# Altium footprint library CONN-STD-PHOENIX-MKDS-2P-5.08MM-TH.PcbLib: 1 footprints
Each footprint in its own frame and in the unit in brackets; x right, y up, seen from the top. Pads: shape width x height; smd on the part's side, far side on the other; paste and mask are expansions set on the pad; w line width, h text height; cw(c..) or ccw(c..) is an arc to the next point about the centre after c.
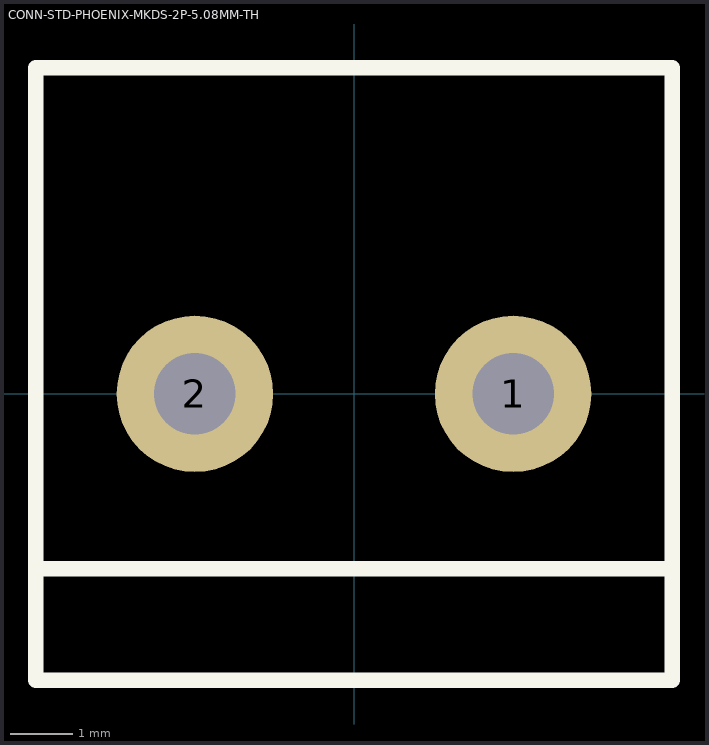
[diagram p0: the footprint, top view; thin cyan lines are the x and y axes]

## CONN-STD-PHOENIX-MKDS-2P-5.08MM-TH [mm]
height 5.33
pads (2):
  round 2.5 hole 1.3: 1(2.54,0) 2(-2.54,0)
Top Overlay:
  lines w0.25: -5.08,-2.794 5.08,-2.794 ; -5.08,-4.572 -5.08,5.207 5.08,5.207 5.08,-4.572 -5.08,-4.572
3D body: height 13.8, standoff -3.5, extent -5.08,-4.283 5.08,5.517